# Altium footprint library HL-AM-2835H489W-S1-08HL-HR3.PcbLib: 1 footprints
Each footprint in its own frame and in the unit in brackets; x right, y up, seen from the top. Pads: shape width x height; smd on the part's side, far side on the other; paste and mask are expansions set on the pad; w line width, h text height; cw(c..) or ccw(c..) is an arc to the next point about the centre after c.
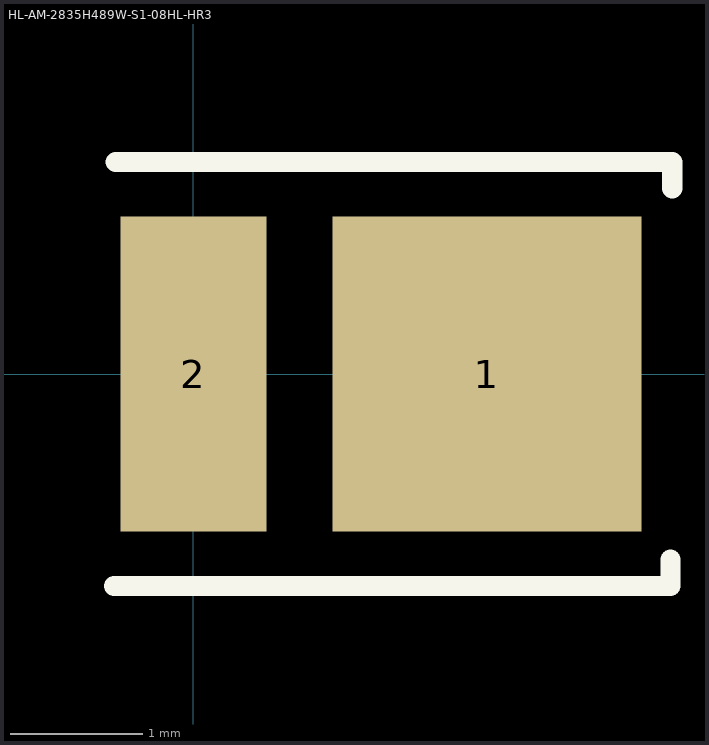
[diagram p0: the footprint, top view; thin cyan lines are the x and y axes]

## HL-AM-2835H489W-S1-08HL-HR3 [mm]
height 0.6
pads (2):
  rect 2.33x2.38 smd: 1(2.215,0)
  rect 1.1x2.38 smd: 2(0,0)
Top Overlay:
  lines w0.152: -0.6,-1.6 3.6,-1.6 3.6,-1.4 ; -0.587,1.6 3.613,1.6 3.613,1.4
3D body "J 2835.step": height 0.65, standoff 0, extent -0.4,-1.4 3.1,1.4
3D body: height 2.16, standoff -0.74, extent -0.6,1.5 -0.6,1.5